# Altium schematic symbol library Library_Buhakova.SchLib: 4 symbols
Pins are listed as number, name and electrical type; pins without a type are passive.

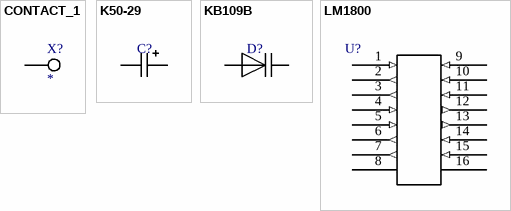
[diagram p0: symbols CONTACT_1 to LM1800]

## CONTACT_1
designator X?
pins: 1

## K50-29
designator C?  (value not drawn)
pins: 1, 2

## KB109B
designator D?  (value not drawn)
pins: 1 A, 2 K

## LM1800
designator U?  (value not drawn)
pins: 1 (in), 2 (out), 3 (out), 4 (in), 5 (in), 6 (out), 7 (out), 8 (power), 9 (in), 10 (in), 11 (in), 12 (out), 13 (out), 14 (in), 15 (in), 16 (power)